# EAGLE library part AGQ20T (library Panasonic Relay)
GQ TH types - 2 Form C - Single side stable - PC board terminal Data sheet <https://www.panasonic-electric-works.com/eu/download.htm?id=55616> Parameters Max. switching voltage: 110V DC, 125V AC Max. switching current: 2A; Inrush current up to 3.5A Operational function: Single side stable, 1 coil latching Contact arrangement: 2 CO Applications Telephone switchboard Telecommunication equipment Security equipment Test and measurement equipment Consumer electronic and audio visual equipment Options Also available as 1 coil latching version.
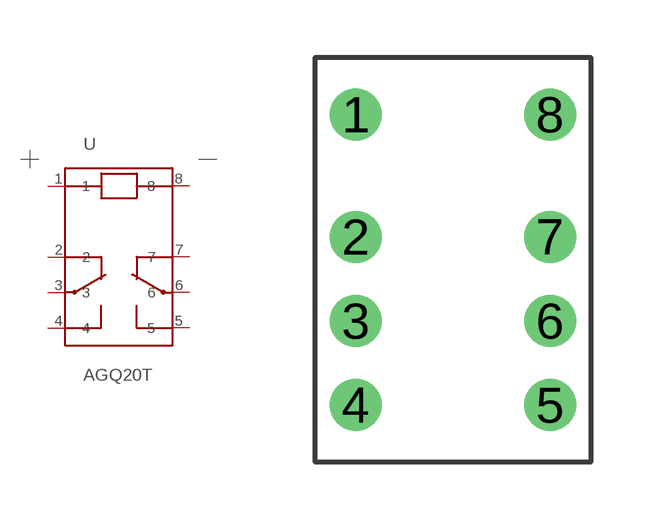
[diagram p46: symbol with the pads of GQ_SSS/1CLT_PCB; footprint GQ_SSS/1CLT_PCB]

Designator prefix -

## AGQ20T03 (U_COIL: 3V DC), AGQ20T06 (U_COIL: 6V DC), AGQ20T09 (U_COIL: 9V DC), AGQ20T12 (U_COIL: 12V DC), AGQ20T1H (U_COIL: 1.5V DC), AGQ20T24 (U_COIL: 24V DC), AGQ20T2H (U_COIL: 2.4V DC), AGQ20T4H (U_COIL: 4.5V DC)  [GQ_SSS/1CLT_PCB]
1  1
2  2
3  3
4  4
5  5
6  6
7  7
8  8

## Footprint GQ_SSS/1CLT_PCB (pad centres in mm)
drill 0.85: 1 -2.54,3.8; 2 -2.54,0.6; 3 -2.54,-1.6; 4 -2.54,-3.8; 5 2.54,-3.8; 6 2.54,-1.6; 7 2.54,0.6; 8 2.54,3.8